# Altium integrated library Dallas Logic Delay Line.IntLib: 454 symbols (part 6 of 8)
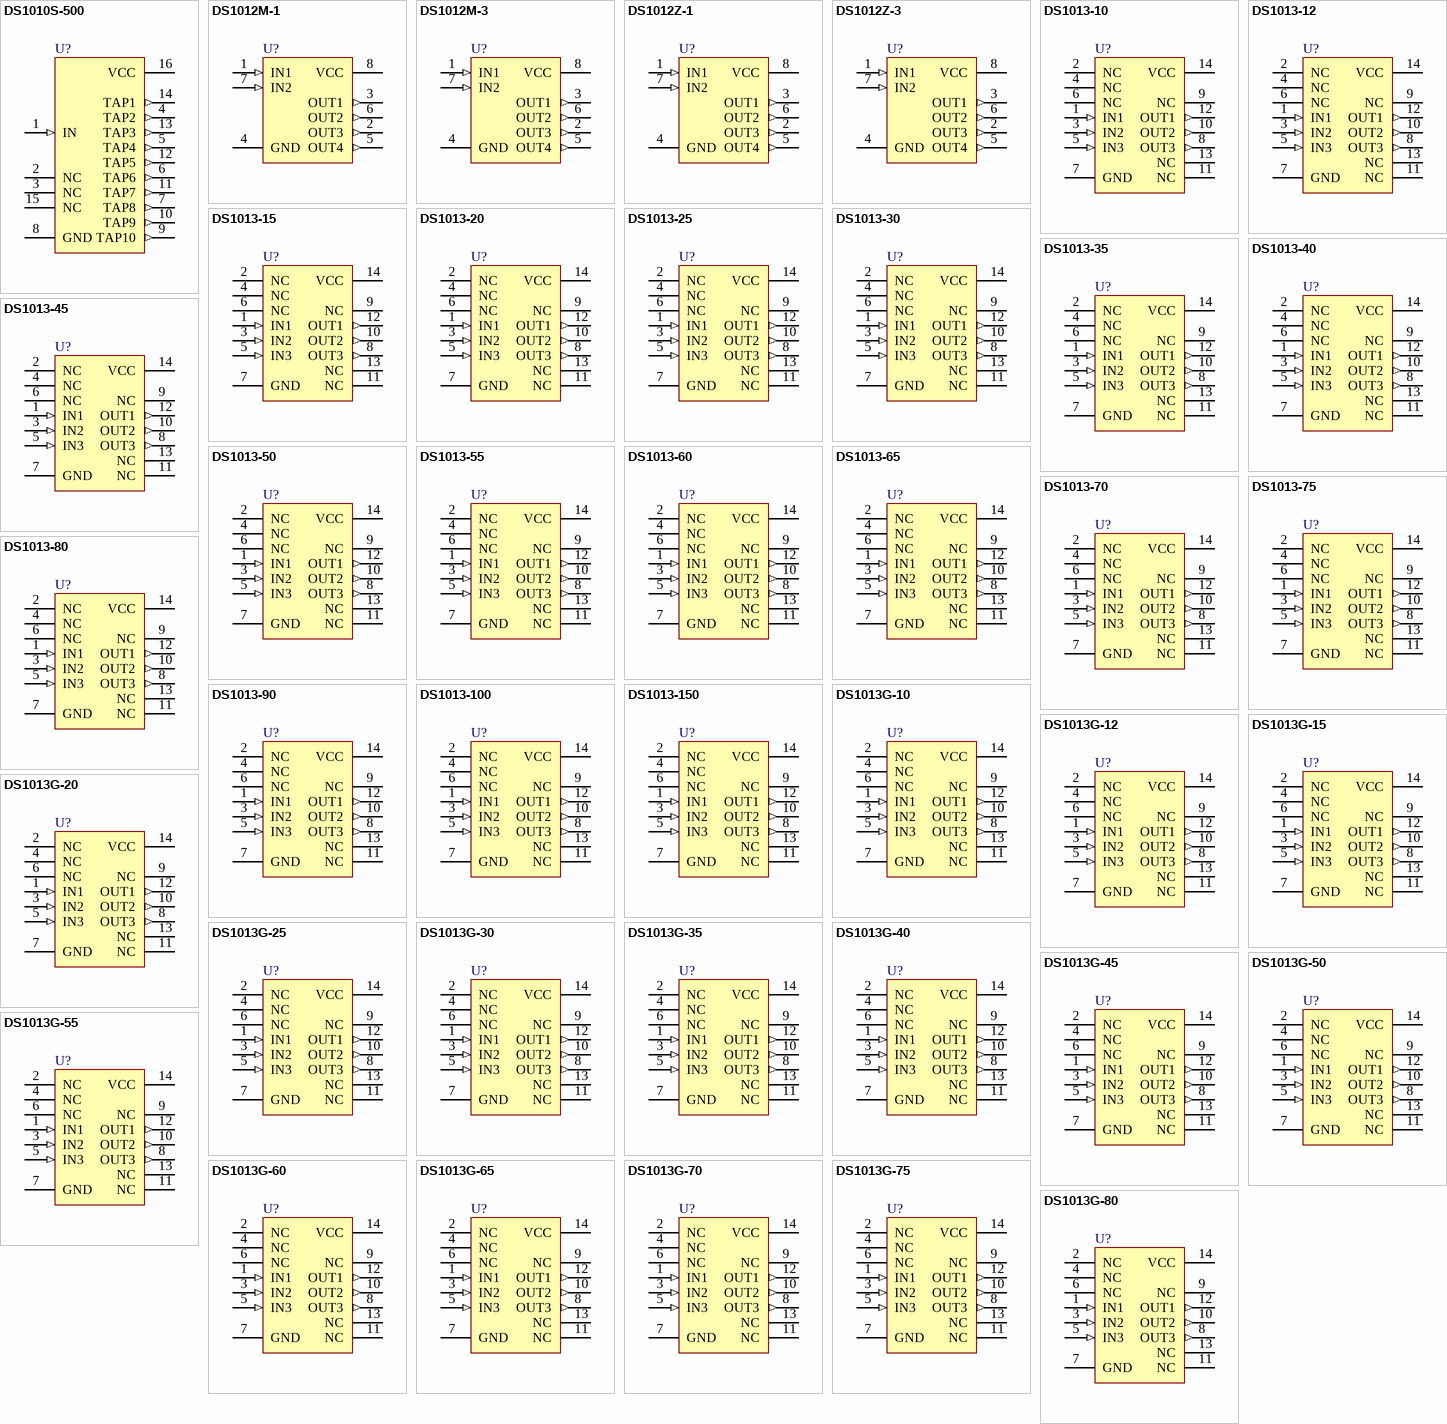
[diagram p16: symbols DS1010S-500 to DS1013G-80]

## DS1013-80
designator U?
3-in-1 Silicon Delay Line; Note: Pin numbers 2, 4, 6, 9, 11 and 13 are Not Connected (NC); Published: 13-Oct-2000; LatestRevisionDate: 17-Jul-2002; LatestRevisionNote: Re-released for DXP Platform.; DatasheetVersion: 17-Feb-1998; PackageVersion: 1999; PackageReference: DIP14; Publisher: Altium Limited; PackageDescription: DIP, 14-Pin, Row Spacing 7.62 mm, Pitch 2.54 mm; ComponentLink1Description: Manufacturer Link; ComponentLink1URL: http://www.maxim-ic.com/; ComponentLink2Description: Datasheet; ComponentLink2URL: http://www.maxim-ic.com/getds.cfm?qv_pk=2605&ln=en
footprint DIP14 (DIP, 14-Leads, Row Spacing 7.62mm, Pitch 2.54mm, Body 19.31x6.35mm)
pins: 1 IN1 (in), 2 NC, 3 IN2 (in), 4 NC, 5 IN3 (in), 6 NC, 7 GND (power), 8 OUT3 (out), 9 NC, 10 OUT2 (out), 11 NC, 12 OUT1 (out), 13 NC, 14 VCC (power)

## DS1013-90
designator U?
3-in-1 Silicon Delay Line; Note: Pin numbers 2, 4, 6, 9, 11 and 13 are Not Connected (NC); Published: 13-Oct-2000; LatestRevisionDate: 17-Jul-2002; LatestRevisionNote: Re-released for DXP Platform.; DatasheetVersion: Mar-1994; PackageVersion: 1999; PackageReference: DIP14; Publisher: Altium Limited; PackageDescription: DIP, 14-Pin, Row Spacing 7.62 mm, Pitch 2.54 mm; ComponentLink1Description: Manufacturer Link; ComponentLink1URL: http://www.maxim-ic.com/; ComponentLink2Description: Datasheet; ComponentLink2URL: http://www.maxim-ic.com/getds.cfm?qv_pk=2605&ln=en
footprint DIP14 (DIP, 14-Leads, Row Spacing 7.62mm, Pitch 2.54mm, Body 19.31x6.35mm)
pins: 1 IN1 (in), 2 NC, 3 IN2 (in), 4 NC, 5 IN3 (in), 6 NC, 7 GND (power), 8 OUT3 (out), 9 NC, 10 OUT2 (out), 11 NC, 12 OUT1 (out), 13 NC, 14 VCC (power)

## DS1013-100
designator U?
3-in-1 Silicon Delay Line; Note: Pin numbers 2, 4, 6, 9, 11 and 13 are Not Connected (NC); Published: 13-Oct-2000; LatestRevisionDate: 17-Jul-2002; LatestRevisionNote: Re-released for DXP Platform.; DatasheetVersion: 17-Feb-1998; PackageVersion: 1999; PackageReference: DIP14; Publisher: Altium Limited; PackageDescription: DIP, 14-Pin, Row Spacing 7.62 mm, Pitch 2.54 mm; ComponentLink1Description: Manufacturer Link; ComponentLink1URL: http://www.maxim-ic.com/; ComponentLink2Description: Datasheet; ComponentLink2URL: http://www.maxim-ic.com/getds.cfm?qv_pk=2605&ln=en
footprint DIP14 (DIP, 14-Leads, Row Spacing 7.62mm, Pitch 2.54mm, Body 19.31x6.35mm)
pins: 1 IN1 (in), 2 NC, 3 IN2 (in), 4 NC, 5 IN3 (in), 6 NC, 7 GND (power), 8 OUT3 (out), 9 NC, 10 OUT2 (out), 11 NC, 12 OUT1 (out), 13 NC, 14 VCC (power)

## DS1013-150
designator U?
3-in-1 Silicon Delay Line; Note: Pin numbers 2, 4, 6, 9, 11 and 13 are Not Connected (NC); Published: 13-Oct-2000; LatestRevisionDate: 17-Jul-2002; LatestRevisionNote: Re-released for DXP Platform.; DatasheetVersion: 17-Feb-1998; PackageVersion: 1999; PackageReference: DIP14; Publisher: Altium Limited; PackageDescription: DIP, 14-Pin, Row Spacing 7.62 mm, Pitch 2.54 mm; ComponentLink1Description: Manufacturer Link; ComponentLink1URL: http://www.maxim-ic.com/; ComponentLink2Description: Datasheet; ComponentLink2URL: http://www.maxim-ic.com/getds.cfm?qv_pk=2605&ln=en
footprint DIP14 (DIP, 14-Leads, Row Spacing 7.62mm, Pitch 2.54mm, Body 19.31x6.35mm)
pins: 1 IN1 (in), 2 NC, 3 IN2 (in), 4 NC, 5 IN3 (in), 6 NC, 7 GND (power), 8 OUT3 (out), 9 NC, 10 OUT2 (out), 11 NC, 12 OUT1 (out), 13 NC, 14 VCC (power)

## DS1013G-10
designator U?
3-in-1 Silicon Delay Line; Note: Pin numbers 2, 4, 6, 9, 11 and 13 are Not Connected (NC); Published: 13-Oct-2000; LatestRevisionDate: 13-Apr-2006; LatestRevisionNote: IPC-7351 Footprint Added.; DatasheetVersion: Mar-1994; PackageVersion: Feb-1999; PackageReference: SOG14; Publisher: Altium Limited; PackageDescription: 14-Pin Small Outline Package 2.54 mm Pitch; ComponentLink1Description: Manufacturer Link; ComponentLink1URL: http://www.maxim-ic.com/; ComponentLink2Description: Datasheet; ComponentLink2URL: http://www.maxim-ic.com/getds.cfm?qv_pk=2605&ln=en
footprint SOG14_N (SOP, 14-Leads, Body 19.3x6.4mm, Pitch 2.54mm, IPC Medium Density)
footprint SOG14_L (SOP, 14-Leads, Body 19.3x6.4mm, Pitch 2.54mm, IPC High Density)
footprint SOG14_M (SOP, 14-Leads, Body 19.3x6.4mm, Pitch 2.54mm, IPC Low Density)
pins: 1 IN1 (in), 2 NC, 3 IN2 (in), 4 NC, 5 IN3 (in), 6 NC, 7 GND (power), 8 OUT3 (out), 9 NC, 10 OUT2 (out), 11 NC, 12 OUT1 (out), 13 NC, 14 VCC (power)

## DS1013G-12
designator U?
3-in-1 Silicon Delay Line; Note: Pin numbers 2, 4, 6, 9, 11 and 13 are Not Connected (NC); Published: 13-Oct-2000; LatestRevisionDate: 13-Apr-2006; LatestRevisionNote: IPC-7351 Footprint Added.; DatasheetVersion: Mar-1994; PackageVersion: Feb-1999; PackageReference: SOG14; Publisher: Altium Limited; PackageDescription: 14-Pin Small Outline Package 2.54 mm Pitch; ComponentLink1Description: Manufacturer Link; ComponentLink1URL: http://www.maxim-ic.com/; ComponentLink2Description: Datasheet; ComponentLink2URL: http://www.maxim-ic.com/getds.cfm?qv_pk=2605&ln=en
footprint SOG14_N (SOP, 14-Leads, Body 19.3x6.4mm, Pitch 2.54mm, IPC Medium Density)
footprint SOG14_L (SOP, 14-Leads, Body 19.3x6.4mm, Pitch 2.54mm, IPC High Density)
footprint SOG14_M (SOP, 14-Leads, Body 19.3x6.4mm, Pitch 2.54mm, IPC Low Density)
pins: 1 IN1 (in), 2 NC, 3 IN2 (in), 4 NC, 5 IN3 (in), 6 NC, 7 GND (power), 8 OUT3 (out), 9 NC, 10 OUT2 (out), 11 NC, 12 OUT1 (out), 13 NC, 14 VCC (power)

## DS1013G-15
designator U?
3-in-1 Silicon Delay Line; Note: Pin numbers 2, 4, 6, 9, 11 and 13 are Not Connected (NC); Published: 13-Oct-2000; LatestRevisionDate: 13-Apr-2006; LatestRevisionNote: IPC-7351 Footprint Added.; DatasheetVersion: Mar-1994; PackageVersion: Feb-1999; PackageReference: SOG14; Publisher: Altium Limited; PackageDescription: 14-Pin Small Outline Package 2.54 mm Pitch; ComponentLink1Description: Manufacturer Link; ComponentLink1URL: http://www.maxim-ic.com/; ComponentLink2Description: Datasheet; ComponentLink2URL: http://www.maxim-ic.com/getds.cfm?qv_pk=2605&ln=en
footprint SOG14_N (SOP, 14-Leads, Body 19.3x6.4mm, Pitch 2.54mm, IPC Medium Density)
footprint SOG14_L (SOP, 14-Leads, Body 19.3x6.4mm, Pitch 2.54mm, IPC High Density)
footprint SOG14_M (SOP, 14-Leads, Body 19.3x6.4mm, Pitch 2.54mm, IPC Low Density)
pins: 1 IN1 (in), 2 NC, 3 IN2 (in), 4 NC, 5 IN3 (in), 6 NC, 7 GND (power), 8 OUT3 (out), 9 NC, 10 OUT2 (out), 11 NC, 12 OUT1 (out), 13 NC, 14 VCC (power)

## DS1013G-20
designator U?
3-in-1 Silicon Delay Line; Note: Pin numbers 2, 4, 6, 9, 11 and 13 are Not Connected (NC); Published: 13-Oct-2000; LatestRevisionDate: 13-Apr-2006; LatestRevisionNote: IPC-7351 Footprint Added.; DatasheetVersion: Mar-1994; PackageVersion: Feb-1999; PackageReference: SOG14; Publisher: Altium Limited; PackageDescription: 14-Pin Small Outline Package 2.54 mm Pitch; ComponentLink1Description: Manufacturer Link; ComponentLink1URL: http://www.maxim-ic.com/; ComponentLink2Description: Datasheet; ComponentLink2URL: http://www.maxim-ic.com/getds.cfm?qv_pk=2605&ln=en
footprint SOG14_N (SOP, 14-Leads, Body 19.3x6.4mm, Pitch 2.54mm, IPC Medium Density)
footprint SOG14_L (SOP, 14-Leads, Body 19.3x6.4mm, Pitch 2.54mm, IPC High Density)
footprint SOG14_M (SOP, 14-Leads, Body 19.3x6.4mm, Pitch 2.54mm, IPC Low Density)
pins: 1 IN1 (in), 2 NC, 3 IN2 (in), 4 NC, 5 IN3 (in), 6 NC, 7 GND (power), 8 OUT3 (out), 9 NC, 10 OUT2 (out), 11 NC, 12 OUT1 (out), 13 NC, 14 VCC (power)

## DS1013G-25
designator U?
3-in-1 Silicon Delay Line; Note: Pin numbers 2, 4, 6, 9, 11 and 13 are Not Connected (NC); Published: 13-Oct-2000; LatestRevisionDate: 13-Apr-2006; LatestRevisionNote: IPC-7351 Footprint Added.; DatasheetVersion: Mar-1994; PackageVersion: Feb-1999; PackageReference: SOG14; Publisher: Altium Limited; PackageDescription: 14-Pin Small Outline Package 2.54 mm Pitch; ComponentLink1Description: Manufacturer Link; ComponentLink1URL: http://www.maxim-ic.com/; ComponentLink2Description: Datasheet; ComponentLink2URL: http://www.maxim-ic.com/getds.cfm?qv_pk=2605&ln=en
footprint SOG14_N (SOP, 14-Leads, Body 19.3x6.4mm, Pitch 2.54mm, IPC Medium Density)
footprint SOG14_L (SOP, 14-Leads, Body 19.3x6.4mm, Pitch 2.54mm, IPC High Density)
footprint SOG14_M (SOP, 14-Leads, Body 19.3x6.4mm, Pitch 2.54mm, IPC Low Density)
pins: 1 IN1 (in), 2 NC, 3 IN2 (in), 4 NC, 5 IN3 (in), 6 NC, 7 GND (power), 8 OUT3 (out), 9 NC, 10 OUT2 (out), 11 NC, 12 OUT1 (out), 13 NC, 14 VCC (power)

## DS1013G-30
designator U?
3-in-1 Silicon Delay Line; Note: Pin numbers 2, 4, 6, 9, 11 and 13 are Not Connected (NC); Published: 13-Oct-2000; LatestRevisionDate: 13-Apr-2006; LatestRevisionNote: IPC-7351 Footprint Added.; DatasheetVersion: Mar-1994; PackageVersion: Feb-1999; PackageReference: SOG14; Publisher: Altium Limited; PackageDescription: 14-Pin Small Outline Package 2.54 mm Pitch; ComponentLink1Description: Manufacturer Link; ComponentLink1URL: http://www.maxim-ic.com/; ComponentLink2Description: Datasheet; ComponentLink2URL: http://www.maxim-ic.com/getds.cfm?qv_pk=2605&ln=en
footprint SOG14_N (SOP, 14-Leads, Body 19.3x6.4mm, Pitch 2.54mm, IPC Medium Density)
footprint SOG14_L (SOP, 14-Leads, Body 19.3x6.4mm, Pitch 2.54mm, IPC High Density)
footprint SOG14_M (SOP, 14-Leads, Body 19.3x6.4mm, Pitch 2.54mm, IPC Low Density)
pins: 1 IN1 (in), 2 NC, 3 IN2 (in), 4 NC, 5 IN3 (in), 6 NC, 7 GND (power), 8 OUT3 (out), 9 NC, 10 OUT2 (out), 11 NC, 12 OUT1 (out), 13 NC, 14 VCC (power)

## DS1013G-35
designator U?
3-in-1 Silicon Delay Line; Note: Pin numbers 2, 4, 6, 9, 11 and 13 are Not Connected (NC); Published: 13-Oct-2000; LatestRevisionDate: 13-Apr-2006; LatestRevisionNote: IPC-7351 Footprint Added.; DatasheetVersion: Mar-1994; PackageVersion: Feb-1999; PackageReference: SOG14; Publisher: Altium Limited; PackageDescription: 14-Pin Small Outline Package 2.54 mm Pitch; ComponentLink1Description: Manufacturer Link; ComponentLink1URL: http://www.maxim-ic.com/; ComponentLink2Description: Datasheet; ComponentLink2URL: http://www.maxim-ic.com/getds.cfm?qv_pk=2605&ln=en
footprint SOG14_N (SOP, 14-Leads, Body 19.3x6.4mm, Pitch 2.54mm, IPC Medium Density)
footprint SOG14_L (SOP, 14-Leads, Body 19.3x6.4mm, Pitch 2.54mm, IPC High Density)
footprint SOG14_M (SOP, 14-Leads, Body 19.3x6.4mm, Pitch 2.54mm, IPC Low Density)
pins: 1 IN1 (in), 2 NC, 3 IN2 (in), 4 NC, 5 IN3 (in), 6 NC, 7 GND (power), 8 OUT3 (out), 9 NC, 10 OUT2 (out), 11 NC, 12 OUT1 (out), 13 NC, 14 VCC (power)

## DS1013G-40
designator U?
3-in-1 Silicon Delay Line; Note: Pin numbers 2, 4, 6, 9, 11 and 13 are Not Connected (NC); Published: 13-Oct-2000; LatestRevisionDate: 13-Apr-2006; LatestRevisionNote: IPC-7351 Footprint Added.; DatasheetVersion: Mar-1994; PackageVersion: Feb-1999; PackageReference: SOG14; Publisher: Altium Limited; PackageDescription: 14-Pin Small Outline Package 2.54 mm Pitch; ComponentLink1Description: Manufacturer Link; ComponentLink1URL: http://www.maxim-ic.com/; ComponentLink2Description: Datasheet; ComponentLink2URL: http://www.maxim-ic.com/getds.cfm?qv_pk=2605&ln=en
footprint SOG14_N (SOP, 14-Leads, Body 19.3x6.4mm, Pitch 2.54mm, IPC Medium Density)
footprint SOG14_L (SOP, 14-Leads, Body 19.3x6.4mm, Pitch 2.54mm, IPC High Density)
footprint SOG14_M (SOP, 14-Leads, Body 19.3x6.4mm, Pitch 2.54mm, IPC Low Density)
pins: 1 IN1 (in), 2 NC, 3 IN2 (in), 4 NC, 5 IN3 (in), 6 NC, 7 GND (power), 8 OUT3 (out), 9 NC, 10 OUT2 (out), 11 NC, 12 OUT1 (out), 13 NC, 14 VCC (power)

## DS1013G-45
designator U?
3-in-1 Silicon Delay Line; Note: Pin numbers 2, 4, 6, 9, 11 and 13 are Not Connected (NC); Published: 13-Oct-2000; LatestRevisionDate: 13-Apr-2006; LatestRevisionNote: IPC-7351 Footprint Added.; DatasheetVersion: Mar-1994; PackageVersion: Feb-1999; PackageReference: SOG14; Publisher: Altium Limited; PackageDescription: 14-Pin Small Outline Package 2.54 mm Pitch; ComponentLink1Description: Manufacturer Link; ComponentLink1URL: http://www.maxim-ic.com/; ComponentLink2Description: Datasheet; ComponentLink2URL: http://www.maxim-ic.com/getds.cfm?qv_pk=2605&ln=en
footprint SOG14_N (SOP, 14-Leads, Body 19.3x6.4mm, Pitch 2.54mm, IPC Medium Density)
footprint SOG14_L (SOP, 14-Leads, Body 19.3x6.4mm, Pitch 2.54mm, IPC High Density)
footprint SOG14_M (SOP, 14-Leads, Body 19.3x6.4mm, Pitch 2.54mm, IPC Low Density)
pins: 1 IN1 (in), 2 NC, 3 IN2 (in), 4 NC, 5 IN3 (in), 6 NC, 7 GND (power), 8 OUT3 (out), 9 NC, 10 OUT2 (out), 11 NC, 12 OUT1 (out), 13 NC, 14 VCC (power)

## DS1013G-50
designator U?
3-in-1 Silicon Delay Line; Note: Pin numbers 2, 4, 6, 9, 11 and 13 are Not Connected (NC); Published: 13-Oct-2000; LatestRevisionDate: 13-Apr-2006; LatestRevisionNote: IPC-7351 Footprint Added.; DatasheetVersion: Mar-1994; PackageVersion: Feb-1999; PackageReference: SOG14; Publisher: Altium Limited; PackageDescription: 14-Pin Small Outline Package 2.54 mm Pitch; ComponentLink1Description: Manufacturer Link; ComponentLink1URL: http://www.maxim-ic.com/; ComponentLink2Description: Datasheet; ComponentLink2URL: http://www.maxim-ic.com/getds.cfm?qv_pk=2605&ln=en
footprint SOG14_N (SOP, 14-Leads, Body 19.3x6.4mm, Pitch 2.54mm, IPC Medium Density)
footprint SOG14_L (SOP, 14-Leads, Body 19.3x6.4mm, Pitch 2.54mm, IPC High Density)
footprint SOG14_M (SOP, 14-Leads, Body 19.3x6.4mm, Pitch 2.54mm, IPC Low Density)
pins: 1 IN1 (in), 2 NC, 3 IN2 (in), 4 NC, 5 IN3 (in), 6 NC, 7 GND (power), 8 OUT3 (out), 9 NC, 10 OUT2 (out), 11 NC, 12 OUT1 (out), 13 NC, 14 VCC (power)

## DS1013G-55
designator U?
3-in-1 Silicon Delay Line; Note: Pin numbers 2, 4, 6, 9, 11 and 13 are Not Connected (NC); Published: 13-Oct-2000; LatestRevisionDate: 13-Apr-2006; LatestRevisionNote: IPC-7351 Footprint Added.; DatasheetVersion: Mar-1994; PackageVersion: Feb-1999; PackageReference: SOG14; Publisher: Altium Limited; PackageDescription: 14-Pin Small Outline Package 2.54 mm Pitch; ComponentLink1Description: Manufacturer Link; ComponentLink1URL: http://www.maxim-ic.com/; ComponentLink2Description: Datasheet; ComponentLink2URL: http://www.maxim-ic.com/getds.cfm?qv_pk=2605&ln=en
footprint SOG14_N (SOP, 14-Leads, Body 19.3x6.4mm, Pitch 2.54mm, IPC Medium Density)
footprint SOG14_L (SOP, 14-Leads, Body 19.3x6.4mm, Pitch 2.54mm, IPC High Density)
footprint SOG14_M (SOP, 14-Leads, Body 19.3x6.4mm, Pitch 2.54mm, IPC Low Density)
pins: 1 IN1 (in), 2 NC, 3 IN2 (in), 4 NC, 5 IN3 (in), 6 NC, 7 GND (power), 8 OUT3 (out), 9 NC, 10 OUT2 (out), 11 NC, 12 OUT1 (out), 13 NC, 14 VCC (power)

## DS1013G-60
designator U?
3-in-1 Silicon Delay Line; Note: Pin numbers 2, 4, 6, 9, 11 and 13 are Not Connected (NC); Published: 13-Oct-2000; LatestRevisionDate: 13-Apr-2006; LatestRevisionNote: IPC-7351 Footprint Added.; DatasheetVersion: Mar-1994; PackageVersion: Feb-1999; PackageReference: SOG14; Publisher: Altium Limited; PackageDescription: 14-Pin Small Outline Package 2.54 mm Pitch; ComponentLink1Description: Manufacturer Link; ComponentLink1URL: http://www.maxim-ic.com/; ComponentLink2Description: Datasheet; ComponentLink2URL: http://www.maxim-ic.com/getds.cfm?qv_pk=2605&ln=en
footprint SOG14_N (SOP, 14-Leads, Body 19.3x6.4mm, Pitch 2.54mm, IPC Medium Density)
footprint SOG14_L (SOP, 14-Leads, Body 19.3x6.4mm, Pitch 2.54mm, IPC High Density)
footprint SOG14_M (SOP, 14-Leads, Body 19.3x6.4mm, Pitch 2.54mm, IPC Low Density)
pins: 1 IN1 (in), 2 NC, 3 IN2 (in), 4 NC, 5 IN3 (in), 6 NC, 7 GND (power), 8 OUT3 (out), 9 NC, 10 OUT2 (out), 11 NC, 12 OUT1 (out), 13 NC, 14 VCC (power)

## DS1013G-65
designator U?
3-in-1 Silicon Delay Line; Note: Pin numbers 2, 4, 6, 9, 11 and 13 are Not Connected (NC); Published: 13-Oct-2000; LatestRevisionDate: 13-Apr-2006; LatestRevisionNote: IPC-7351 Footprint Added.; DatasheetVersion: Mar-1994; PackageVersion: Feb-1999; PackageReference: SOG14; Publisher: Altium Limited; PackageDescription: 14-Pin Small Outline Package 2.54 mm Pitch; ComponentLink1Description: Manufacturer Link; ComponentLink1URL: http://www.maxim-ic.com/; ComponentLink2Description: Datasheet; ComponentLink2URL: http://www.maxim-ic.com/getds.cfm?qv_pk=2605&ln=en
footprint SOG14_N (SOP, 14-Leads, Body 19.3x6.4mm, Pitch 2.54mm, IPC Medium Density)
footprint SOG14_L (SOP, 14-Leads, Body 19.3x6.4mm, Pitch 2.54mm, IPC High Density)
footprint SOG14_M (SOP, 14-Leads, Body 19.3x6.4mm, Pitch 2.54mm, IPC Low Density)
pins: 1 IN1 (in), 2 NC, 3 IN2 (in), 4 NC, 5 IN3 (in), 6 NC, 7 GND (power), 8 OUT3 (out), 9 NC, 10 OUT2 (out), 11 NC, 12 OUT1 (out), 13 NC, 14 VCC (power)

## DS1013G-70
designator U?
3-in-1 Silicon Delay Line; Note: Pin numbers 2, 4, 6, 9, 11 and 13 are Not Connected (NC); Published: 13-Oct-2000; LatestRevisionDate: 13-Apr-2006; LatestRevisionNote: IPC-7351 Footprint Added.; DatasheetVersion: Mar-1994; PackageVersion: Feb-1999; PackageReference: SOG14; Publisher: Altium Limited; PackageDescription: 14-Pin Small Outline Package 2.54 mm Pitch; ComponentLink1Description: Manufacturer Link; ComponentLink1URL: http://www.maxim-ic.com/; ComponentLink2Description: Datasheet; ComponentLink2URL: http://www.maxim-ic.com/getds.cfm?qv_pk=2605&ln=en
footprint SOG14_N (SOP, 14-Leads, Body 19.3x6.4mm, Pitch 2.54mm, IPC Medium Density)
footprint SOG14_L (SOP, 14-Leads, Body 19.3x6.4mm, Pitch 2.54mm, IPC High Density)
footprint SOG14_M (SOP, 14-Leads, Body 19.3x6.4mm, Pitch 2.54mm, IPC Low Density)
pins: 1 IN1 (in), 2 NC, 3 IN2 (in), 4 NC, 5 IN3 (in), 6 NC, 7 GND (power), 8 OUT3 (out), 9 NC, 10 OUT2 (out), 11 NC, 12 OUT1 (out), 13 NC, 14 VCC (power)

## DS1013G-75
designator U?
3-in-1 Silicon Delay Line; Note: Pin numbers 2, 4, 6, 9, 11 and 13 are Not Connected (NC); Published: 13-Oct-2000; LatestRevisionDate: 13-Apr-2006; LatestRevisionNote: IPC-7351 Footprint Added.; DatasheetVersion: Mar-1994; PackageVersion: Feb-1999; PackageReference: SOG14; Publisher: Altium Limited; PackageDescription: 14-Pin Small Outline Package 2.54 mm Pitch; ComponentLink1Description: Manufacturer Link; ComponentLink1URL: http://www.maxim-ic.com/; ComponentLink2Description: Datasheet; ComponentLink2URL: http://www.maxim-ic.com/getds.cfm?qv_pk=2605&ln=en
footprint SOG14_N (SOP, 14-Leads, Body 19.3x6.4mm, Pitch 2.54mm, IPC Medium Density)
footprint SOG14_L (SOP, 14-Leads, Body 19.3x6.4mm, Pitch 2.54mm, IPC High Density)
footprint SOG14_M (SOP, 14-Leads, Body 19.3x6.4mm, Pitch 2.54mm, IPC Low Density)
pins: 1 IN1 (in), 2 NC, 3 IN2 (in), 4 NC, 5 IN3 (in), 6 NC, 7 GND (power), 8 OUT3 (out), 9 NC, 10 OUT2 (out), 11 NC, 12 OUT1 (out), 13 NC, 14 VCC (power)

## DS1013G-80
designator U?
3-in-1 Silicon Delay Line; Note: Pin numbers 2, 4, 6, 9, 11 and 13 are Not Connected (NC); Published: 13-Oct-2000; LatestRevisionDate: 13-Apr-2006; LatestRevisionNote: IPC-7351 Footprint Added.; DatasheetVersion: Mar-1994; PackageVersion: Feb-1999; PackageReference: SOG14; Publisher: Altium Limited; PackageDescription: 14-Pin Small Outline Package 2.54 mm Pitch; ComponentLink1Description: Manufacturer Link; ComponentLink1URL: http://www.maxim-ic.com/; ComponentLink2Description: Datasheet; ComponentLink2URL: http://www.maxim-ic.com/getds.cfm?qv_pk=2605&ln=en
footprint SOG14_N (SOP, 14-Leads, Body 19.3x6.4mm, Pitch 2.54mm, IPC Medium Density)
footprint SOG14_L (SOP, 14-Leads, Body 19.3x6.4mm, Pitch 2.54mm, IPC High Density)
footprint SOG14_M (SOP, 14-Leads, Body 19.3x6.4mm, Pitch 2.54mm, IPC Low Density)
pins: 1 IN1 (in), 2 NC, 3 IN2 (in), 4 NC, 5 IN3 (in), 6 NC, 7 GND (power), 8 OUT3 (out), 9 NC, 10 OUT2 (out), 11 NC, 12 OUT1 (out), 13 NC, 14 VCC (power)

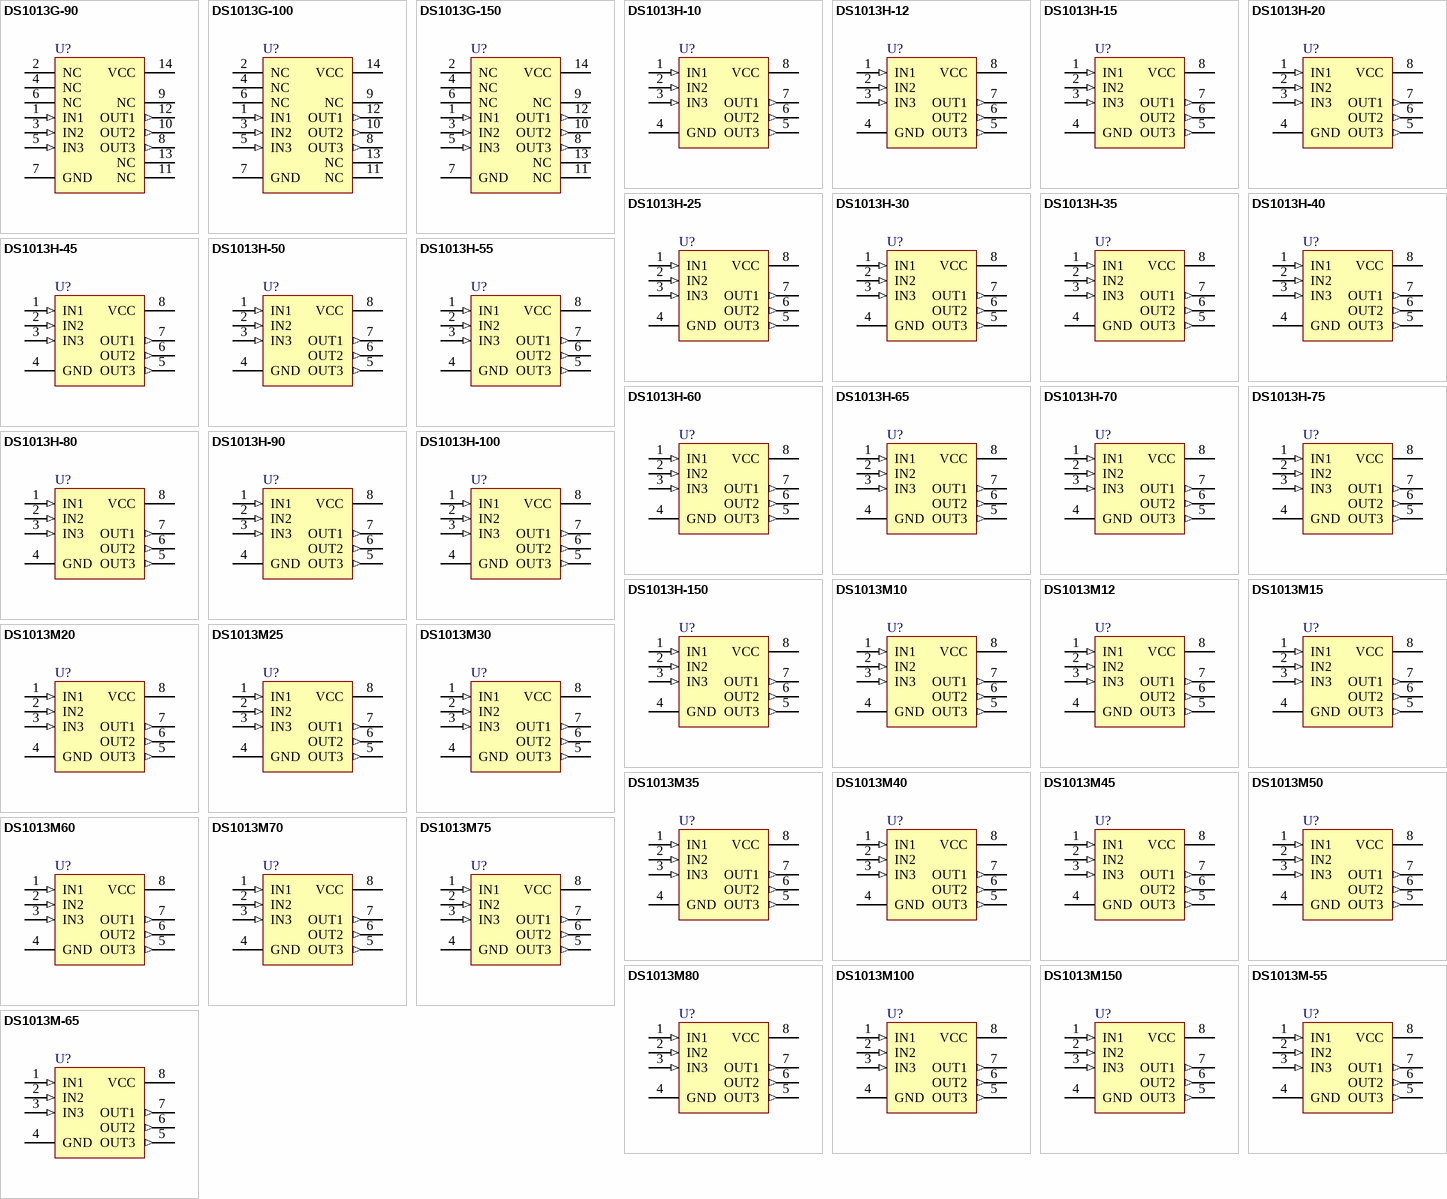
[diagram p8: symbols DS1013G-90 to DS1013M-65]

## DS1013G-90
designator U?
3-in-1 Silicon Delay Line; Note: Pin numbers 2, 4, 6, 9, 11 and 13 are Not Connected (NC); Published: 13-Oct-2000; LatestRevisionDate: 13-Apr-2006; LatestRevisionNote: IPC-7351 Footprint Added.; DatasheetVersion: Mar-1994; PackageVersion: Feb-1999; PackageReference: SOG14; Publisher: Altium Limited; PackageDescription: 14-Pin Small Outline Package 2.54 mm Pitch; ComponentLink1Description: Manufacturer Link; ComponentLink1URL: http://www.maxim-ic.com/; ComponentLink2Description: Datasheet; ComponentLink2URL: http://www.maxim-ic.com/getds.cfm?qv_pk=2605&ln=en
footprint SOG14_N (SOP, 14-Leads, Body 19.3x6.4mm, Pitch 2.54mm, IPC Medium Density)
footprint SOG14_L (SOP, 14-Leads, Body 19.3x6.4mm, Pitch 2.54mm, IPC High Density)
footprint SOG14_M (SOP, 14-Leads, Body 19.3x6.4mm, Pitch 2.54mm, IPC Low Density)
pins: 1 IN1 (in), 2 NC, 3 IN2 (in), 4 NC, 5 IN3 (in), 6 NC, 7 GND (power), 8 OUT3 (out), 9 NC, 10 OUT2 (out), 11 NC, 12 OUT1 (out), 13 NC, 14 VCC (power)

## DS1013G-100
designator U?
3-in-1 Silicon Delay Line; Note: Pin numbers 2, 4, 6, 9, 11 and 13 are Not Connected (NC); Published: 13-Oct-2000; LatestRevisionDate: 13-Apr-2006; LatestRevisionNote: IPC-7351 Footprint Added.; DatasheetVersion: Mar-1994; PackageVersion: Feb-1999; PackageReference: SOG14; Publisher: Altium Limited; PackageDescription: 14-Pin Small Outline Package 2.54 mm Pitch; ComponentLink1Description: Manufacturer Link; ComponentLink1URL: http://www.maxim-ic.com/; ComponentLink2Description: Datasheet; ComponentLink2URL: http://www.maxim-ic.com/getds.cfm?qv_pk=2605&ln=en
footprint SOG14_N (SOP, 14-Leads, Body 19.3x6.4mm, Pitch 2.54mm, IPC Medium Density)
footprint SOG14_L (SOP, 14-Leads, Body 19.3x6.4mm, Pitch 2.54mm, IPC High Density)
footprint SOG14_M (SOP, 14-Leads, Body 19.3x6.4mm, Pitch 2.54mm, IPC Low Density)
pins: 1 IN1 (in), 2 NC, 3 IN2 (in), 4 NC, 5 IN3 (in), 6 NC, 7 GND (power), 8 OUT3 (out), 9 NC, 10 OUT2 (out), 11 NC, 12 OUT1 (out), 13 NC, 14 VCC (power)

## DS1013G-150
designator U?
3-in-1 Silicon Delay Line; Note: Pin numbers 2, 4, 6, 9, 11 and 13 are Not Connected (NC); Published: 13-Oct-2000; LatestRevisionDate: 13-Apr-2006; LatestRevisionNote: IPC-7351 Footprint Added.; DatasheetVersion: Mar-1994; PackageVersion: Feb-1999; PackageReference: SOG14; Publisher: Altium Limited; PackageDescription: 14-Pin Small Outline Package 2.54 mm Pitch; ComponentLink1Description: Manufacturer Link; ComponentLink1URL: http://www.maxim-ic.com/; ComponentLink2Description: Datasheet; ComponentLink2URL: http://www.maxim-ic.com/getds.cfm?qv_pk=2605&ln=en
footprint SOG14_N (SOP, 14-Leads, Body 19.3x6.4mm, Pitch 2.54mm, IPC Medium Density)
footprint SOG14_L (SOP, 14-Leads, Body 19.3x6.4mm, Pitch 2.54mm, IPC High Density)
footprint SOG14_M (SOP, 14-Leads, Body 19.3x6.4mm, Pitch 2.54mm, IPC Low Density)
pins: 1 IN1 (in), 2 NC, 3 IN2 (in), 4 NC, 5 IN3 (in), 6 NC, 7 GND (power), 8 OUT3 (out), 9 NC, 10 OUT2 (out), 11 NC, 12 OUT1 (out), 13 NC, 14 VCC (power)

## DS1013H-10
designator U?
3-in-1 Silicon Delay Line; Published: 13-Oct-2000; LatestRevisionDate: 13-Apr-2006; LatestRevisionNote: IPC-7351 Footprint Added.; DatasheetVersion: Mar-1994; PackageVersion: 1999; PackageReference: DIP8; Publisher: Altium Limited; PackageDescription: DIP, 8-Pin, Row Spacing 7.62 mm, Pitch 2.54 mm; ComponentLink1Description: Manufacturer Link; ComponentLink1URL: http://www.maxim-ic.com/; ComponentLink2Description: Datasheet; ComponentLink2URL: http://www.maxim-ic.com/getds.cfm?qv_pk=2605&ln=en
footprint DIP8 (DIP, 8-Leads, Row Spacing 7.62mm, Pitch 2.54mm, Body 9.65x6.35mm)
pins: 1 IN1 (in), 2 IN2 (in), 3 IN3 (in), 4 GND (power), 5 OUT3 (out), 6 OUT2 (out), 7 OUT1 (out), 8 VCC (power)

## DS1013H-12
designator U?
3-in-1 Silicon Delay Line; Published: 13-Oct-2000; LatestRevisionDate: 13-Apr-2006; LatestRevisionNote: IPC-7351 Footprint Added.; DatasheetVersion: Mar-1994; PackageVersion: 1999; PackageReference: DIP8; Publisher: Altium Limited; PackageDescription: DIP, 8-Pin, Row Spacing 7.62 mm, Pitch 2.54 mm; ComponentLink1Description: Manufacturer Link; ComponentLink1URL: http://www.maxim-ic.com/; ComponentLink2Description: Datasheet; ComponentLink2URL: http://www.maxim-ic.com/getds.cfm?qv_pk=2605&ln=en
footprint DIP8 (DIP, 8-Leads, Row Spacing 7.62mm, Pitch 2.54mm, Body 9.65x6.35mm)
pins: 1 IN1 (in), 2 IN2 (in), 3 IN3 (in), 4 GND (power), 5 OUT3 (out), 6 OUT2 (out), 7 OUT1 (out), 8 VCC (power)

## DS1013H-15
designator U?
3-in-1 Silicon Delay Line; Published: 13-Oct-2000; LatestRevisionDate: 13-Apr-2006; LatestRevisionNote: IPC-7351 Footprint Added.; DatasheetVersion: Mar-1994; PackageVersion: 1999; PackageReference: DIP8; Publisher: Altium Limited; PackageDescription: DIP, 8-Pin, Row Spacing 7.62 mm, Pitch 2.54 mm; ComponentLink1Description: Manufacturer Link; ComponentLink1URL: http://www.maxim-ic.com/; ComponentLink2Description: Datasheet; ComponentLink2URL: http://www.maxim-ic.com/getds.cfm?qv_pk=2605&ln=en
footprint DIP8 (DIP, 8-Leads, Row Spacing 7.62mm, Pitch 2.54mm, Body 9.65x6.35mm)
pins: 1 IN1 (in), 2 IN2 (in), 3 IN3 (in), 4 GND (power), 5 OUT3 (out), 6 OUT2 (out), 7 OUT1 (out), 8 VCC (power)

## DS1013H-20
designator U?
3-in-1 Silicon Delay Line; Published: 13-Oct-2000; LatestRevisionDate: 13-Apr-2006; LatestRevisionNote: IPC-7351 Footprint Added.; DatasheetVersion: Mar-1994; PackageVersion: 1999; PackageReference: DIP8; Publisher: Altium Limited; PackageDescription: DIP, 8-Pin, Row Spacing 7.62 mm, Pitch 2.54 mm; ComponentLink1Description: Manufacturer Link; ComponentLink1URL: http://www.maxim-ic.com/; ComponentLink2Description: Datasheet; ComponentLink2URL: http://www.maxim-ic.com/getds.cfm?qv_pk=2605&ln=en
footprint DIP8 (DIP, 8-Leads, Row Spacing 7.62mm, Pitch 2.54mm, Body 9.65x6.35mm)
pins: 1 IN1 (in), 2 IN2 (in), 3 IN3 (in), 4 GND (power), 5 OUT3 (out), 6 OUT2 (out), 7 OUT1 (out), 8 VCC (power)

## DS1013H-25
designator U?
3-in-1 Silicon Delay Line; Published: 13-Oct-2000; LatestRevisionDate: 13-Apr-2006; LatestRevisionNote: IPC-7351 Footprint Added.; DatasheetVersion: Mar-1994; PackageVersion: 1999; PackageReference: DIP8; Publisher: Altium Limited; PackageDescription: DIP, 8-Pin, Row Spacing 7.62 mm, Pitch 2.54 mm; ComponentLink1Description: Manufacturer Link; ComponentLink1URL: http://www.maxim-ic.com/; ComponentLink2Description: Datasheet; ComponentLink2URL: http://www.maxim-ic.com/getds.cfm?qv_pk=2605&ln=en
footprint DIP8 (DIP, 8-Leads, Row Spacing 7.62mm, Pitch 2.54mm, Body 9.65x6.35mm)
pins: 1 IN1 (in), 2 IN2 (in), 3 IN3 (in), 4 GND (power), 5 OUT3 (out), 6 OUT2 (out), 7 OUT1 (out), 8 VCC (power)

## DS1013H-30
designator U?
3-in-1 Silicon Delay Line; Published: 13-Oct-2000; LatestRevisionDate: 13-Apr-2006; LatestRevisionNote: IPC-7351 Footprint Added.; DatasheetVersion: Mar-1994; PackageVersion: 1999; PackageReference: DIP8; Publisher: Altium Limited; PackageDescription: DIP, 8-Pin, Row Spacing 7.62 mm, Pitch 2.54 mm; ComponentLink1Description: Manufacturer Link; ComponentLink1URL: http://www.maxim-ic.com/; ComponentLink2Description: Datasheet; ComponentLink2URL: http://www.maxim-ic.com/getds.cfm?qv_pk=2605&ln=en
footprint DIP8 (DIP, 8-Leads, Row Spacing 7.62mm, Pitch 2.54mm, Body 9.65x6.35mm)
pins: 1 IN1 (in), 2 IN2 (in), 3 IN3 (in), 4 GND (power), 5 OUT3 (out), 6 OUT2 (out), 7 OUT1 (out), 8 VCC (power)

## DS1013H-35
designator U?
3-in-1 Silicon Delay Line; Published: 13-Oct-2000; LatestRevisionDate: 13-Apr-2006; LatestRevisionNote: IPC-7351 Footprint Added.; DatasheetVersion: Mar-1994; PackageVersion: 1999; PackageReference: DIP8; Publisher: Altium Limited; PackageDescription: DIP, 8-Pin, Row Spacing 7.62 mm, Pitch 2.54 mm; ComponentLink1Description: Manufacturer Link; ComponentLink1URL: http://www.maxim-ic.com/; ComponentLink2Description: Datasheet; ComponentLink2URL: http://www.maxim-ic.com/getds.cfm?qv_pk=2605&ln=en
footprint DIP8 (DIP, 8-Leads, Row Spacing 7.62mm, Pitch 2.54mm, Body 9.65x6.35mm)
pins: 1 IN1 (in), 2 IN2 (in), 3 IN3 (in), 4 GND (power), 5 OUT3 (out), 6 OUT2 (out), 7 OUT1 (out), 8 VCC (power)

## DS1013H-40
designator U?
3-in-1 Silicon Delay Line; Published: 13-Oct-2000; LatestRevisionDate: 13-Apr-2006; LatestRevisionNote: IPC-7351 Footprint Added.; DatasheetVersion: Mar-1994; PackageVersion: 1999; PackageReference: DIP8; Publisher: Altium Limited; PackageDescription: DIP, 8-Pin, Row Spacing 7.62 mm, Pitch 2.54 mm; ComponentLink1Description: Manufacturer Link; ComponentLink1URL: http://www.maxim-ic.com/; ComponentLink2Description: Datasheet; ComponentLink2URL: http://www.maxim-ic.com/getds.cfm?qv_pk=2605&ln=en
footprint DIP8 (DIP, 8-Leads, Row Spacing 7.62mm, Pitch 2.54mm, Body 9.65x6.35mm)
pins: 1 IN1 (in), 2 IN2 (in), 3 IN3 (in), 4 GND (power), 5 OUT3 (out), 6 OUT2 (out), 7 OUT1 (out), 8 VCC (power)

## DS1013H-45
designator U?
3-in-1 Silicon Delay Line; Published: 13-Oct-2000; LatestRevisionDate: 13-Apr-2006; LatestRevisionNote: IPC-7351 Footprint Added.; DatasheetVersion: Mar-1994; PackageVersion: 1999; PackageReference: DIP8; Publisher: Altium Limited; PackageDescription: DIP, 8-Pin, Row Spacing 7.62 mm, Pitch 2.54 mm; ComponentLink1Description: Manufacturer Link; ComponentLink1URL: http://www.maxim-ic.com/; ComponentLink2Description: Datasheet; ComponentLink2URL: http://www.maxim-ic.com/getds.cfm?qv_pk=2605&ln=en
footprint DIP8 (DIP, 8-Leads, Row Spacing 7.62mm, Pitch 2.54mm, Body 9.65x6.35mm)
pins: 1 IN1 (in), 2 IN2 (in), 3 IN3 (in), 4 GND (power), 5 OUT3 (out), 6 OUT2 (out), 7 OUT1 (out), 8 VCC (power)

## DS1013H-50
designator U?
3-in-1 Silicon Delay Line; Published: 13-Oct-2000; LatestRevisionDate: 13-Apr-2006; LatestRevisionNote: IPC-7351 Footprint Added.; DatasheetVersion: Mar-1994; PackageVersion: 1999; PackageReference: DIP8; Publisher: Altium Limited; PackageDescription: DIP, 8-Pin, Row Spacing 7.62 mm, Pitch 2.54 mm; ComponentLink1Description: Manufacturer Link; ComponentLink1URL: http://www.maxim-ic.com/; ComponentLink2Description: Datasheet; ComponentLink2URL: http://www.maxim-ic.com/getds.cfm?qv_pk=2605&ln=en
footprint DIP8 (DIP, 8-Leads, Row Spacing 7.62mm, Pitch 2.54mm, Body 9.65x6.35mm)
pins: 1 IN1 (in), 2 IN2 (in), 3 IN3 (in), 4 GND (power), 5 OUT3 (out), 6 OUT2 (out), 7 OUT1 (out), 8 VCC (power)

## DS1013H-55
designator U?
3-in-1 Silicon Delay Line; Published: 13-Oct-2000; LatestRevisionDate: 13-Apr-2006; LatestRevisionNote: IPC-7351 Footprint Added.; DatasheetVersion: Mar-1994; PackageVersion: 1999; PackageReference: DIP8; Publisher: Altium Limited; PackageDescription: DIP, 8-Pin, Row Spacing 7.62 mm, Pitch 2.54 mm; ComponentLink1Description: Manufacturer Link; ComponentLink1URL: http://www.maxim-ic.com/; ComponentLink2Description: Datasheet; ComponentLink2URL: http://www.maxim-ic.com/getds.cfm?qv_pk=2605&ln=en
footprint DIP8 (DIP, 8-Leads, Row Spacing 7.62mm, Pitch 2.54mm, Body 9.65x6.35mm)
pins: 1 IN1 (in), 2 IN2 (in), 3 IN3 (in), 4 GND (power), 5 OUT3 (out), 6 OUT2 (out), 7 OUT1 (out), 8 VCC (power)

## DS1013H-60
designator U?
3-in-1 Silicon Delay Line; Published: 13-Oct-2000; LatestRevisionDate: 13-Apr-2006; LatestRevisionNote: IPC-7351 Footprint Added.; DatasheetVersion: Mar-1994; PackageVersion: 1999; PackageReference: DIP8; Publisher: Altium Limited; PackageDescription: DIP, 8-Pin, Row Spacing 7.62 mm, Pitch 2.54 mm; ComponentLink1Description: Manufacturer Link; ComponentLink1URL: http://www.maxim-ic.com/; ComponentLink2Description: Datasheet; ComponentLink2URL: http://www.maxim-ic.com/getds.cfm?qv_pk=2605&ln=en
footprint DIP8 (DIP, 8-Leads, Row Spacing 7.62mm, Pitch 2.54mm, Body 9.65x6.35mm)
pins: 1 IN1 (in), 2 IN2 (in), 3 IN3 (in), 4 GND (power), 5 OUT3 (out), 6 OUT2 (out), 7 OUT1 (out), 8 VCC (power)

## DS1013H-65
designator U?
3-in-1 Silicon Delay Line; Published: 13-Oct-2000; LatestRevisionDate: 13-Apr-2006; LatestRevisionNote: IPC-7351 Footprint Added.; DatasheetVersion: Mar-1994; PackageVersion: 1999; PackageReference: DIP8; Publisher: Altium Limited; PackageDescription: DIP, 8-Pin, Row Spacing 7.62 mm, Pitch 2.54 mm; ComponentLink1Description: Manufacturer Link; ComponentLink1URL: http://www.maxim-ic.com/; ComponentLink2Description: Datasheet; ComponentLink2URL: http://www.maxim-ic.com/getds.cfm?qv_pk=2605&ln=en
footprint DIP8 (DIP, 8-Leads, Row Spacing 7.62mm, Pitch 2.54mm, Body 9.65x6.35mm)
pins: 1 IN1 (in), 2 IN2 (in), 3 IN3 (in), 4 GND (power), 5 OUT3 (out), 6 OUT2 (out), 7 OUT1 (out), 8 VCC (power)

## DS1013H-70
designator U?
3-in-1 Silicon Delay Line; Published: 13-Oct-2000; LatestRevisionDate: 13-Apr-2006; LatestRevisionNote: IPC-7351 Footprint Added.; DatasheetVersion: Mar-1994; PackageVersion: 1999; PackageReference: DIP8; Publisher: Altium Limited; PackageDescription: DIP, 8-Pin, Row Spacing 7.62 mm, Pitch 2.54 mm; ComponentLink1Description: Manufacturer Link; ComponentLink1URL: http://www.maxim-ic.com/; ComponentLink2Description: Datasheet; ComponentLink2URL: http://www.maxim-ic.com/getds.cfm?qv_pk=2605&ln=en
footprint DIP8 (DIP, 8-Leads, Row Spacing 7.62mm, Pitch 2.54mm, Body 9.65x6.35mm)
pins: 1 IN1 (in), 2 IN2 (in), 3 IN3 (in), 4 GND (power), 5 OUT3 (out), 6 OUT2 (out), 7 OUT1 (out), 8 VCC (power)

## DS1013H-75
designator U?
3-in-1 Silicon Delay Line; Published: 13-Oct-2000; LatestRevisionDate: 13-Apr-2006; LatestRevisionNote: IPC-7351 Footprint Added.; DatasheetVersion: Mar-1994; PackageVersion: 1999; PackageReference: DIP8; Publisher: Altium Limited; PackageDescription: DIP, 8-Pin, Row Spacing 7.62 mm, Pitch 2.54 mm; ComponentLink1Description: Manufacturer Link; ComponentLink1URL: http://www.maxim-ic.com/; ComponentLink2Description: Datasheet; ComponentLink2URL: http://www.maxim-ic.com/getds.cfm?qv_pk=2605&ln=en
footprint DIP8 (DIP, 8-Leads, Row Spacing 7.62mm, Pitch 2.54mm, Body 9.65x6.35mm)
pins: 1 IN1 (in), 2 IN2 (in), 3 IN3 (in), 4 GND (power), 5 OUT3 (out), 6 OUT2 (out), 7 OUT1 (out), 8 VCC (power)

## DS1013H-80
designator U?
3-in-1 Silicon Delay Line; Published: 13-Oct-2000; LatestRevisionDate: 13-Apr-2006; LatestRevisionNote: IPC-7351 Footprint Added.; DatasheetVersion: Mar-1994; PackageVersion: 1999; PackageReference: DIP8; Publisher: Altium Limited; PackageDescription: DIP, 8-Pin, Row Spacing 7.62 mm, Pitch 2.54 mm; ComponentLink1Description: Manufacturer Link; ComponentLink1URL: http://www.maxim-ic.com/; ComponentLink2Description: Datasheet; ComponentLink2URL: http://www.maxim-ic.com/getds.cfm?qv_pk=2605&ln=en
footprint DIP8 (DIP, 8-Leads, Row Spacing 7.62mm, Pitch 2.54mm, Body 9.65x6.35mm)
pins: 1 IN1 (in), 2 IN2 (in), 3 IN3 (in), 4 GND (power), 5 OUT3 (out), 6 OUT2 (out), 7 OUT1 (out), 8 VCC (power)

## DS1013H-90
designator U?
3-in-1 Silicon Delay Line; Published: 13-Oct-2000; LatestRevisionDate: 13-Apr-2006; LatestRevisionNote: IPC-7351 Footprint Added.; DatasheetVersion: Mar-1994; PackageVersion: 1999; PackageReference: DIP8; Publisher: Altium Limited; PackageDescription: DIP, 8-Pin, Row Spacing 7.62 mm, Pitch 2.54 mm; ComponentLink1Description: Manufacturer Link; ComponentLink1URL: http://www.maxim-ic.com/; ComponentLink2Description: Datasheet; ComponentLink2URL: http://www.maxim-ic.com/getds.cfm?qv_pk=2605&ln=en
footprint DIP8 (DIP, 8-Leads, Row Spacing 7.62mm, Pitch 2.54mm, Body 9.65x6.35mm)
pins: 1 IN1 (in), 2 IN2 (in), 3 IN3 (in), 4 GND (power), 5 OUT3 (out), 6 OUT2 (out), 7 OUT1 (out), 8 VCC (power)

## DS1013H-100
designator U?
3-in-1 Silicon Delay Line; Published: 13-Oct-2000; LatestRevisionDate: 13-Apr-2006; LatestRevisionNote: IPC-7351 Footprint Added.; DatasheetVersion: Mar-1994; PackageVersion: 1999; PackageReference: DIP8; Publisher: Altium Limited; PackageDescription: DIP, 8-Pin, Row Spacing 7.62 mm, Pitch 2.54 mm; ComponentLink1Description: Manufacturer Link; ComponentLink1URL: http://www.maxim-ic.com/; ComponentLink2Description: Datasheet; ComponentLink2URL: http://www.maxim-ic.com/getds.cfm?qv_pk=2605&ln=en
footprint DIP8 (DIP, 8-Leads, Row Spacing 7.62mm, Pitch 2.54mm, Body 9.65x6.35mm)
pins: 1 IN1 (in), 2 IN2 (in), 3 IN3 (in), 4 GND (power), 5 OUT3 (out), 6 OUT2 (out), 7 OUT1 (out), 8 VCC (power)

## DS1013H-150
designator U?
3-in-1 Silicon Delay Line; Published: 13-Oct-2000; LatestRevisionDate: 13-Apr-2006; LatestRevisionNote: IPC-7351 Footprint Added.; DatasheetVersion: Mar-1994; PackageVersion: 1999; PackageReference: DIP8; Publisher: Altium Limited; PackageDescription: DIP, 8-Pin, Row Spacing 7.62 mm, Pitch 2.54 mm; ComponentLink1Description: Manufacturer Link; ComponentLink1URL: http://www.maxim-ic.com/; ComponentLink2Description: Datasheet; ComponentLink2URL: http://www.maxim-ic.com/getds.cfm?qv_pk=2605&ln=en
footprint DIP8 (DIP, 8-Leads, Row Spacing 7.62mm, Pitch 2.54mm, Body 9.65x6.35mm)
pins: 1 IN1 (in), 2 IN2 (in), 3 IN3 (in), 4 GND (power), 5 OUT3 (out), 6 OUT2 (out), 7 OUT1 (out), 8 VCC (power)

## DS1013M10
designator U?
3-in-1 Silicon Delay Line; Published: 13-Oct-2000; LatestRevisionDate: 17-Jul-2002; LatestRevisionNote: Re-released for DXP Platform.; DatasheetVersion: 17-Feb-1998; PackageVersion: 1999; PackageReference: DIP8; Publisher: Altium Limited; PackageDescription: DIP, 8-Pin, Row Spacing 7.62 mm, Pitch 2.54 mm; ComponentLink1Description: Manufacturer Link; ComponentLink1URL: http://www.maxim-ic.com/; ComponentLink2Description: Datasheet; ComponentLink2URL: http://www.maxim-ic.com/getds.cfm?qv_pk=2605&ln=en
footprint DIP8 (DIP, 8-Leads, Row Spacing 7.62mm, Pitch 2.54mm, Body 9.65x6.35mm)
pins: 1 IN1 (in), 2 IN2 (in), 3 IN3 (in), 4 GND (power), 5 OUT3 (out), 6 OUT2 (out), 7 OUT1 (out), 8 VCC (power)

## DS1013M12
designator U?
3-in-1 Silicon Delay Line; Published: 13-Oct-2000; LatestRevisionDate: 17-Jul-2002; LatestRevisionNote: Re-released for DXP Platform.; DatasheetVersion: 17-Feb-1998; PackageVersion: 1999; PackageReference: DIP8; Publisher: Altium Limited; PackageDescription: DIP, 8-Pin, Row Spacing 7.62 mm, Pitch 2.54 mm; ComponentLink1Description: Manufacturer Link; ComponentLink1URL: http://www.maxim-ic.com/; ComponentLink2Description: Datasheet; ComponentLink2URL: http://www.maxim-ic.com/getds.cfm?qv_pk=2605&ln=en
footprint DIP8 (DIP, 8-Leads, Row Spacing 7.62mm, Pitch 2.54mm, Body 9.65x6.35mm)
pins: 1 IN1 (in), 2 IN2 (in), 3 IN3 (in), 4 GND (power), 5 OUT3 (out), 6 OUT2 (out), 7 OUT1 (out), 8 VCC (power)

## DS1013M15
designator U?
3-in-1 Silicon Delay Line; Published: 13-Oct-2000; LatestRevisionDate: 17-Jul-2002; LatestRevisionNote: Re-released for DXP Platform.; DatasheetVersion: 17-Feb-1998; PackageVersion: 1999; PackageReference: DIP8; Publisher: Altium Limited; PackageDescription: DIP, 8-Pin, Row Spacing 7.62 mm, Pitch 2.54 mm; ComponentLink1Description: Manufacturer Link; ComponentLink1URL: http://www.maxim-ic.com/; ComponentLink2Description: Datasheet; ComponentLink2URL: http://www.maxim-ic.com/getds.cfm?qv_pk=2605&ln=en
footprint DIP8 (DIP, 8-Leads, Row Spacing 7.62mm, Pitch 2.54mm, Body 9.65x6.35mm)
pins: 1 IN1 (in), 2 IN2 (in), 3 IN3 (in), 4 GND (power), 5 OUT3 (out), 6 OUT2 (out), 7 OUT1 (out), 8 VCC (power)

## DS1013M20
designator U?
3-in-1 Silicon Delay Line; Published: 13-Oct-2000; LatestRevisionDate: 17-Jul-2002; LatestRevisionNote: Re-released for DXP Platform.; DatasheetVersion: 17-Feb-1998; PackageVersion: 1999; PackageReference: DIP8; Publisher: Altium Limited; PackageDescription: DIP, 8-Pin, Row Spacing 7.62 mm, Pitch 2.54 mm; ComponentLink1Description: Manufacturer Link; ComponentLink1URL: http://www.maxim-ic.com/; ComponentLink2Description: Datasheet; ComponentLink2URL: http://www.maxim-ic.com/getds.cfm?qv_pk=2605&ln=en
footprint DIP8 (DIP, 8-Leads, Row Spacing 7.62mm, Pitch 2.54mm, Body 9.65x6.35mm)
pins: 1 IN1 (in), 2 IN2 (in), 3 IN3 (in), 4 GND (power), 5 OUT3 (out), 6 OUT2 (out), 7 OUT1 (out), 8 VCC (power)

## DS1013M25
designator U?
3-in-1 Silicon Delay Line; Published: 13-Oct-2000; LatestRevisionDate: 17-Jul-2002; LatestRevisionNote: Re-released for DXP Platform.; DatasheetVersion: 17-Feb-1998; PackageVersion: 1999; PackageReference: DIP8; Publisher: Altium Limited; PackageDescription: DIP, 8-Pin, Row Spacing 7.62 mm, Pitch 2.54 mm; ComponentLink1Description: Manufacturer Link; ComponentLink1URL: http://www.maxim-ic.com/; ComponentLink2Description: Datasheet; ComponentLink2URL: http://www.maxim-ic.com/getds.cfm?qv_pk=2605&ln=en
footprint DIP8 (DIP, 8-Leads, Row Spacing 7.62mm, Pitch 2.54mm, Body 9.65x6.35mm)
pins: 1 IN1 (in), 2 IN2 (in), 3 IN3 (in), 4 GND (power), 5 OUT3 (out), 6 OUT2 (out), 7 OUT1 (out), 8 VCC (power)

## DS1013M30
designator U?
3-in-1 Silicon Delay Line; Published: 13-Oct-2000; LatestRevisionDate: 17-Jul-2002; LatestRevisionNote: Re-released for DXP Platform.; DatasheetVersion: 17-Feb-1998; PackageVersion: 1999; PackageReference: DIP8; Publisher: Altium Limited; PackageDescription: DIP, 8-Pin, Row Spacing 7.62 mm, Pitch 2.54 mm; ComponentLink1Description: Manufacturer Link; ComponentLink1URL: http://www.maxim-ic.com/; ComponentLink2Description: Datasheet; ComponentLink2URL: http://www.maxim-ic.com/getds.cfm?qv_pk=2605&ln=en
footprint DIP8 (DIP, 8-Leads, Row Spacing 7.62mm, Pitch 2.54mm, Body 9.65x6.35mm)
pins: 1 IN1 (in), 2 IN2 (in), 3 IN3 (in), 4 GND (power), 5 OUT3 (out), 6 OUT2 (out), 7 OUT1 (out), 8 VCC (power)

## DS1013M35
designator U?
3-in-1 Silicon Delay Line; Published: 13-Oct-2000; LatestRevisionDate: 17-Jul-2002; LatestRevisionNote: Re-released for DXP Platform.; DatasheetVersion: 17-Feb-1998; PackageVersion: 1999; PackageReference: DIP8; Publisher: Altium Limited; PackageDescription: DIP, 8-Pin, Row Spacing 7.62 mm, Pitch 2.54 mm; ComponentLink1Description: Manufacturer Link; ComponentLink1URL: http://www.maxim-ic.com/; ComponentLink2Description: Datasheet; ComponentLink2URL: http://www.maxim-ic.com/getds.cfm?qv_pk=2605&ln=en
footprint DIP8 (DIP, 8-Leads, Row Spacing 7.62mm, Pitch 2.54mm, Body 9.65x6.35mm)
pins: 1 IN1 (in), 2 IN2 (in), 3 IN3 (in), 4 GND (power), 5 OUT3 (out), 6 OUT2 (out), 7 OUT1 (out), 8 VCC (power)

## DS1013M40
designator U?
3-in-1 Silicon Delay Line; Published: 13-Oct-2000; LatestRevisionDate: 17-Jul-2002; LatestRevisionNote: Re-released for DXP Platform.; DatasheetVersion: 17-Feb-1998; PackageVersion: 1999; PackageReference: DIP8; Publisher: Altium Limited; PackageDescription: DIP, 8-Pin, Row Spacing 7.62 mm, Pitch 2.54 mm; ComponentLink1Description: Manufacturer Link; ComponentLink1URL: http://www.maxim-ic.com/; ComponentLink2Description: Datasheet; ComponentLink2URL: http://www.maxim-ic.com/getds.cfm?qv_pk=2605&ln=en
footprint DIP8 (DIP, 8-Leads, Row Spacing 7.62mm, Pitch 2.54mm, Body 9.65x6.35mm)
pins: 1 IN1 (in), 2 IN2 (in), 3 IN3 (in), 4 GND (power), 5 OUT3 (out), 6 OUT2 (out), 7 OUT1 (out), 8 VCC (power)

## DS1013M45
designator U?
3-in-1 Silicon Delay Line; Published: 13-Oct-2000; LatestRevisionDate: 17-Jul-2002; LatestRevisionNote: Re-released for DXP Platform.; DatasheetVersion: 17-Feb-1998; PackageVersion: 1999; PackageReference: DIP8; Publisher: Altium Limited; PackageDescription: DIP, 8-Pin, Row Spacing 7.62 mm, Pitch 2.54 mm; ComponentLink1Description: Manufacturer Link; ComponentLink1URL: http://www.maxim-ic.com/; ComponentLink2Description: Datasheet; ComponentLink2URL: http://www.maxim-ic.com/getds.cfm?qv_pk=2605&ln=en
footprint DIP8 (DIP, 8-Leads, Row Spacing 7.62mm, Pitch 2.54mm, Body 9.65x6.35mm)
pins: 1 IN1 (in), 2 IN2 (in), 3 IN3 (in), 4 GND (power), 5 OUT3 (out), 6 OUT2 (out), 7 OUT1 (out), 8 VCC (power)

## DS1013M50
designator U?
3-in-1 Silicon Delay Line; Published: 13-Oct-2000; LatestRevisionDate: 17-Jul-2002; LatestRevisionNote: Re-released for DXP Platform.; DatasheetVersion: 17-Feb-1998; PackageVersion: 1999; PackageReference: DIP8; Publisher: Altium Limited; PackageDescription: DIP, 8-Pin, Row Spacing 7.62 mm, Pitch 2.54 mm; ComponentLink1Description: Manufacturer Link; ComponentLink1URL: http://www.maxim-ic.com/; ComponentLink2Description: Datasheet; ComponentLink2URL: http://www.maxim-ic.com/getds.cfm?qv_pk=2605&ln=en
footprint DIP8 (DIP, 8-Leads, Row Spacing 7.62mm, Pitch 2.54mm, Body 9.65x6.35mm)
pins: 1 IN1 (in), 2 IN2 (in), 3 IN3 (in), 4 GND (power), 5 OUT3 (out), 6 OUT2 (out), 7 OUT1 (out), 8 VCC (power)

## DS1013M60
designator U?
3-in-1 Silicon Delay Line; Published: 13-Oct-2000; LatestRevisionDate: 17-Jul-2002; LatestRevisionNote: Re-released for DXP Platform.; DatasheetVersion: 17-Feb-1998; PackageVersion: 1999; PackageReference: DIP8; Publisher: Altium Limited; PackageDescription: DIP, 8-Pin, Row Spacing 7.62 mm, Pitch 2.54 mm; ComponentLink1Description: Manufacturer Link; ComponentLink1URL: http://www.maxim-ic.com/; ComponentLink2Description: Datasheet; ComponentLink2URL: http://www.maxim-ic.com/getds.cfm?qv_pk=2605&ln=en
footprint DIP8 (DIP, 8-Leads, Row Spacing 7.62mm, Pitch 2.54mm, Body 9.65x6.35mm)
pins: 1 IN1 (in), 2 IN2 (in), 3 IN3 (in), 4 GND (power), 5 OUT3 (out), 6 OUT2 (out), 7 OUT1 (out), 8 VCC (power)

## DS1013M70
designator U?
3-in-1 Silicon Delay Line; Published: 13-Oct-2000; LatestRevisionDate: 17-Jul-2002; LatestRevisionNote: Re-released for DXP Platform.; DatasheetVersion: 17-Feb-1998; PackageVersion: 1999; PackageReference: DIP8; Publisher: Altium Limited; PackageDescription: DIP, 8-Pin, Row Spacing 7.62 mm, Pitch 2.54 mm; ComponentLink1Description: Manufacturer Link; ComponentLink1URL: http://www.maxim-ic.com/; ComponentLink2Description: Datasheet; ComponentLink2URL: http://www.maxim-ic.com/getds.cfm?qv_pk=2605&ln=en
footprint DIP8 (DIP, 8-Leads, Row Spacing 7.62mm, Pitch 2.54mm, Body 9.65x6.35mm)
pins: 1 IN1 (in), 2 IN2 (in), 3 IN3 (in), 4 GND (power), 5 OUT3 (out), 6 OUT2 (out), 7 OUT1 (out), 8 VCC (power)

## DS1013M75
designator U?
3-in-1 Silicon Delay Line; Published: 13-Oct-2000; LatestRevisionDate: 17-Jul-2002; LatestRevisionNote: Re-released for DXP Platform.; DatasheetVersion: 17-Feb-1998; PackageVersion: 1999; PackageReference: DIP8; Publisher: Altium Limited; PackageDescription: DIP, 8-Pin, Row Spacing 7.62 mm, Pitch 2.54 mm; ComponentLink1Description: Manufacturer Link; ComponentLink1URL: http://www.maxim-ic.com/; ComponentLink2Description: Datasheet; ComponentLink2URL: http://www.maxim-ic.com/getds.cfm?qv_pk=2605&ln=en
footprint DIP8 (DIP, 8-Leads, Row Spacing 7.62mm, Pitch 2.54mm, Body 9.65x6.35mm)
pins: 1 IN1 (in), 2 IN2 (in), 3 IN3 (in), 4 GND (power), 5 OUT3 (out), 6 OUT2 (out), 7 OUT1 (out), 8 VCC (power)

## DS1013M80
designator U?
3-in-1 Silicon Delay Line; Published: 13-Oct-2000; LatestRevisionDate: 17-Jul-2002; LatestRevisionNote: Re-released for DXP Platform.; DatasheetVersion: 17-Feb-1998; PackageVersion: 1999; PackageReference: DIP8; Publisher: Altium Limited; PackageDescription: DIP, 8-Pin, Row Spacing 7.62 mm, Pitch 2.54 mm; ComponentLink1Description: Manufacturer Link; ComponentLink1URL: http://www.maxim-ic.com/; ComponentLink2Description: Datasheet; ComponentLink2URL: http://www.maxim-ic.com/getds.cfm?qv_pk=2605&ln=en
footprint DIP8 (DIP, 8-Leads, Row Spacing 7.62mm, Pitch 2.54mm, Body 9.65x6.35mm)
pins: 1 IN1 (in), 2 IN2 (in), 3 IN3 (in), 4 GND (power), 5 OUT3 (out), 6 OUT2 (out), 7 OUT1 (out), 8 VCC (power)

## DS1013M100
designator U?
3-in-1 Silicon Delay Line; Published: 13-Oct-2000; LatestRevisionDate: 17-Jul-2002; LatestRevisionNote: Re-released for DXP Platform.; DatasheetVersion: 17-Feb-1998; PackageVersion: 1999; PackageReference: DIP8; Publisher: Altium Limited; PackageDescription: DIP, 8-Pin, Row Spacing 7.62 mm, Pitch 2.54 mm; ComponentLink1Description: Manufacturer Link; ComponentLink1URL: http://www.maxim-ic.com/; ComponentLink2Description: Datasheet; ComponentLink2URL: http://www.maxim-ic.com/getds.cfm?qv_pk=2605&ln=en
footprint DIP8 (DIP, 8-Leads, Row Spacing 7.62mm, Pitch 2.54mm, Body 9.65x6.35mm)
pins: 1 IN1 (in), 2 IN2 (in), 3 IN3 (in), 4 GND (power), 5 OUT3 (out), 6 OUT2 (out), 7 OUT1 (out), 8 VCC (power)

## DS1013M150
designator U?
3-in-1 Silicon Delay Line; Published: 13-Oct-2000; LatestRevisionDate: 17-Jul-2002; LatestRevisionNote: Re-released for DXP Platform.; DatasheetVersion: 17-Feb-1998; PackageVersion: 1999; PackageReference: DIP8; Publisher: Altium Limited; PackageDescription: DIP, 8-Pin, Row Spacing 7.62 mm, Pitch 2.54 mm; ComponentLink1Description: Manufacturer Link; ComponentLink1URL: http://www.maxim-ic.com/; ComponentLink2Description: Datasheet; ComponentLink2URL: http://www.maxim-ic.com/getds.cfm?qv_pk=2605&ln=en
footprint DIP8 (DIP, 8-Leads, Row Spacing 7.62mm, Pitch 2.54mm, Body 9.65x6.35mm)
pins: 1 IN1 (in), 2 IN2 (in), 3 IN3 (in), 4 GND (power), 5 OUT3 (out), 6 OUT2 (out), 7 OUT1 (out), 8 VCC (power)

## DS1013M-55
designator U?
3-in-1 Silicon Delay Line; Published: 13-Oct-2000; LatestRevisionDate: 17-Jul-2002; LatestRevisionNote: Re-released for DXP Platform.; DatasheetVersion: Mar-1994; PackageVersion: 1999; PackageReference: DIP8; Publisher: Altium Limited; PackageDescription: DIP, 8-Pin, Row Spacing 7.62 mm, Pitch 2.54 mm; ComponentLink1Description: Manufacturer Link; ComponentLink1URL: http://www.maxim-ic.com/; ComponentLink2Description: Datasheet; ComponentLink2URL: http://www.maxim-ic.com/getds.cfm?qv_pk=2605&ln=en
footprint DIP8 (DIP, 8-Leads, Row Spacing 7.62mm, Pitch 2.54mm, Body 9.65x6.35mm)
pins: 1 IN1 (in), 2 IN2 (in), 3 IN3 (in), 4 GND (power), 5 OUT3 (out), 6 OUT2 (out), 7 OUT1 (out), 8 VCC (power)

## DS1013M-65
designator U?
3-in-1 Silicon Delay Line; Published: 13-Oct-2000; LatestRevisionDate: 17-Jul-2002; LatestRevisionNote: Re-released for DXP Platform.; DatasheetVersion: Mar-1994; PackageVersion: 1999; PackageReference: DIP8; Publisher: Altium Limited; PackageDescription: DIP, 8-Pin, Row Spacing 7.62 mm, Pitch 2.54 mm; ComponentLink1Description: Manufacturer Link; ComponentLink1URL: http://www.maxim-ic.com/; ComponentLink2Description: Datasheet; ComponentLink2URL: http://www.maxim-ic.com/getds.cfm?qv_pk=2605&ln=en
footprint DIP8 (DIP, 8-Leads, Row Spacing 7.62mm, Pitch 2.54mm, Body 9.65x6.35mm)
pins: 1 IN1 (in), 2 IN2 (in), 3 IN3 (in), 4 GND (power), 5 OUT3 (out), 6 OUT2 (out), 7 OUT1 (out), 8 VCC (power)

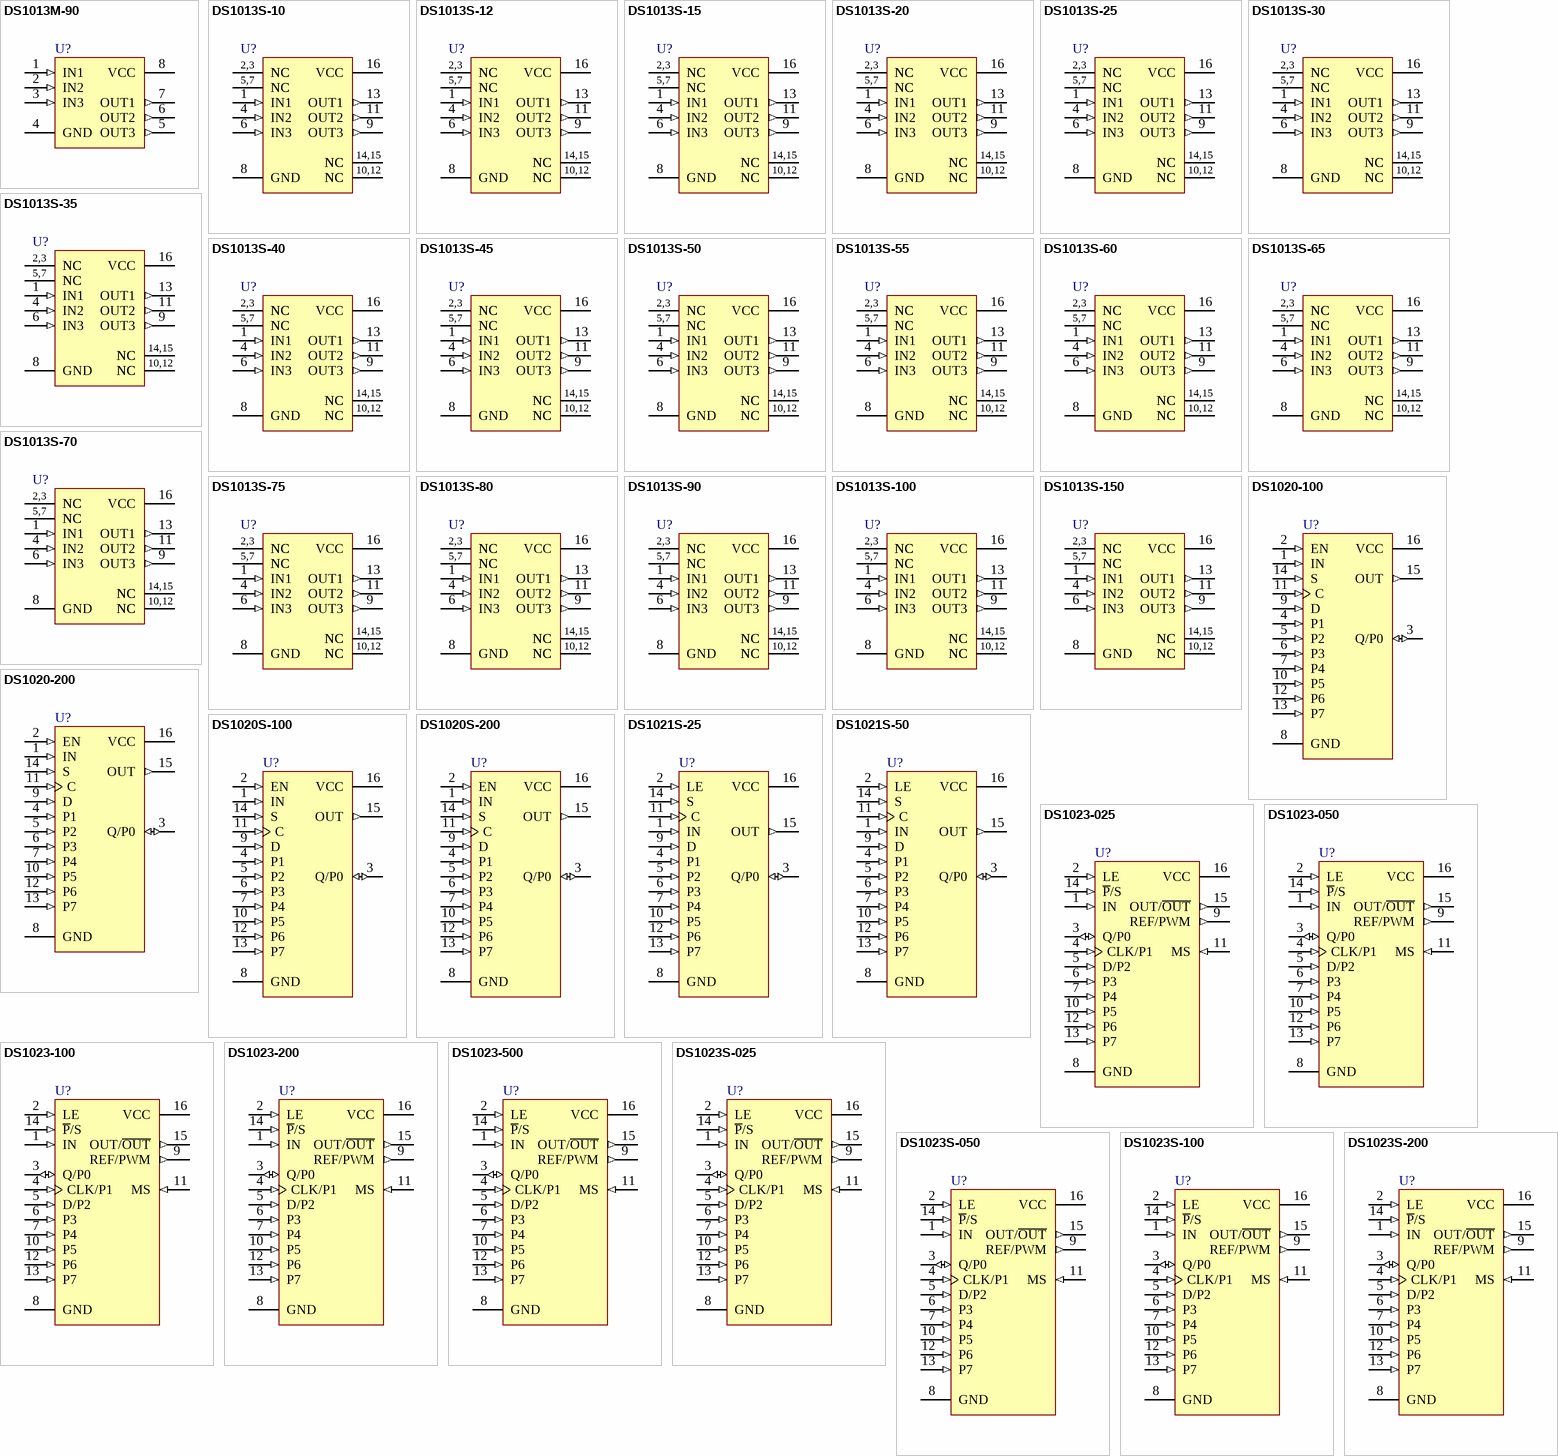
[diagram p9: symbols DS1013M-90 to DS1023S-200]

## DS1013M-90
designator U?
3-in-1 Silicon Delay Line; Published: 13-Oct-2000; LatestRevisionDate: 17-Jul-2002; LatestRevisionNote: Re-released for DXP Platform.; DatasheetVersion: Mar-1994; PackageVersion: 1999; PackageReference: DIP8; Publisher: Altium Limited; PackageDescription: DIP, 8-Pin, Row Spacing 7.62 mm, Pitch 2.54 mm; ComponentLink1Description: Manufacturer Link; ComponentLink1URL: http://www.maxim-ic.com/; ComponentLink2Description: Datasheet; ComponentLink2URL: http://www.maxim-ic.com/getds.cfm?qv_pk=2605&ln=en
footprint DIP8 (DIP, 8-Leads, Row Spacing 7.62mm, Pitch 2.54mm, Body 9.65x6.35mm)
pins: 1 IN1 (in), 2 IN2 (in), 3 IN3 (in), 4 GND (power), 5 OUT3 (out), 6 OUT2 (out), 7 OUT1 (out), 8 VCC (power)